# Altium footprint library DXPpcb.PCBLIB: 575 footprints (part 28 of 36)
Each footprint in its own frame and in the unit in brackets; x right, y up, seen from the top. Pads: shape width x height; smd on the part's side, far side on the other; paste and mask are expansions set on the pad; w line width, h text height; cw(c..) or ccw(c..) is an arc to the next point about the centre after c.
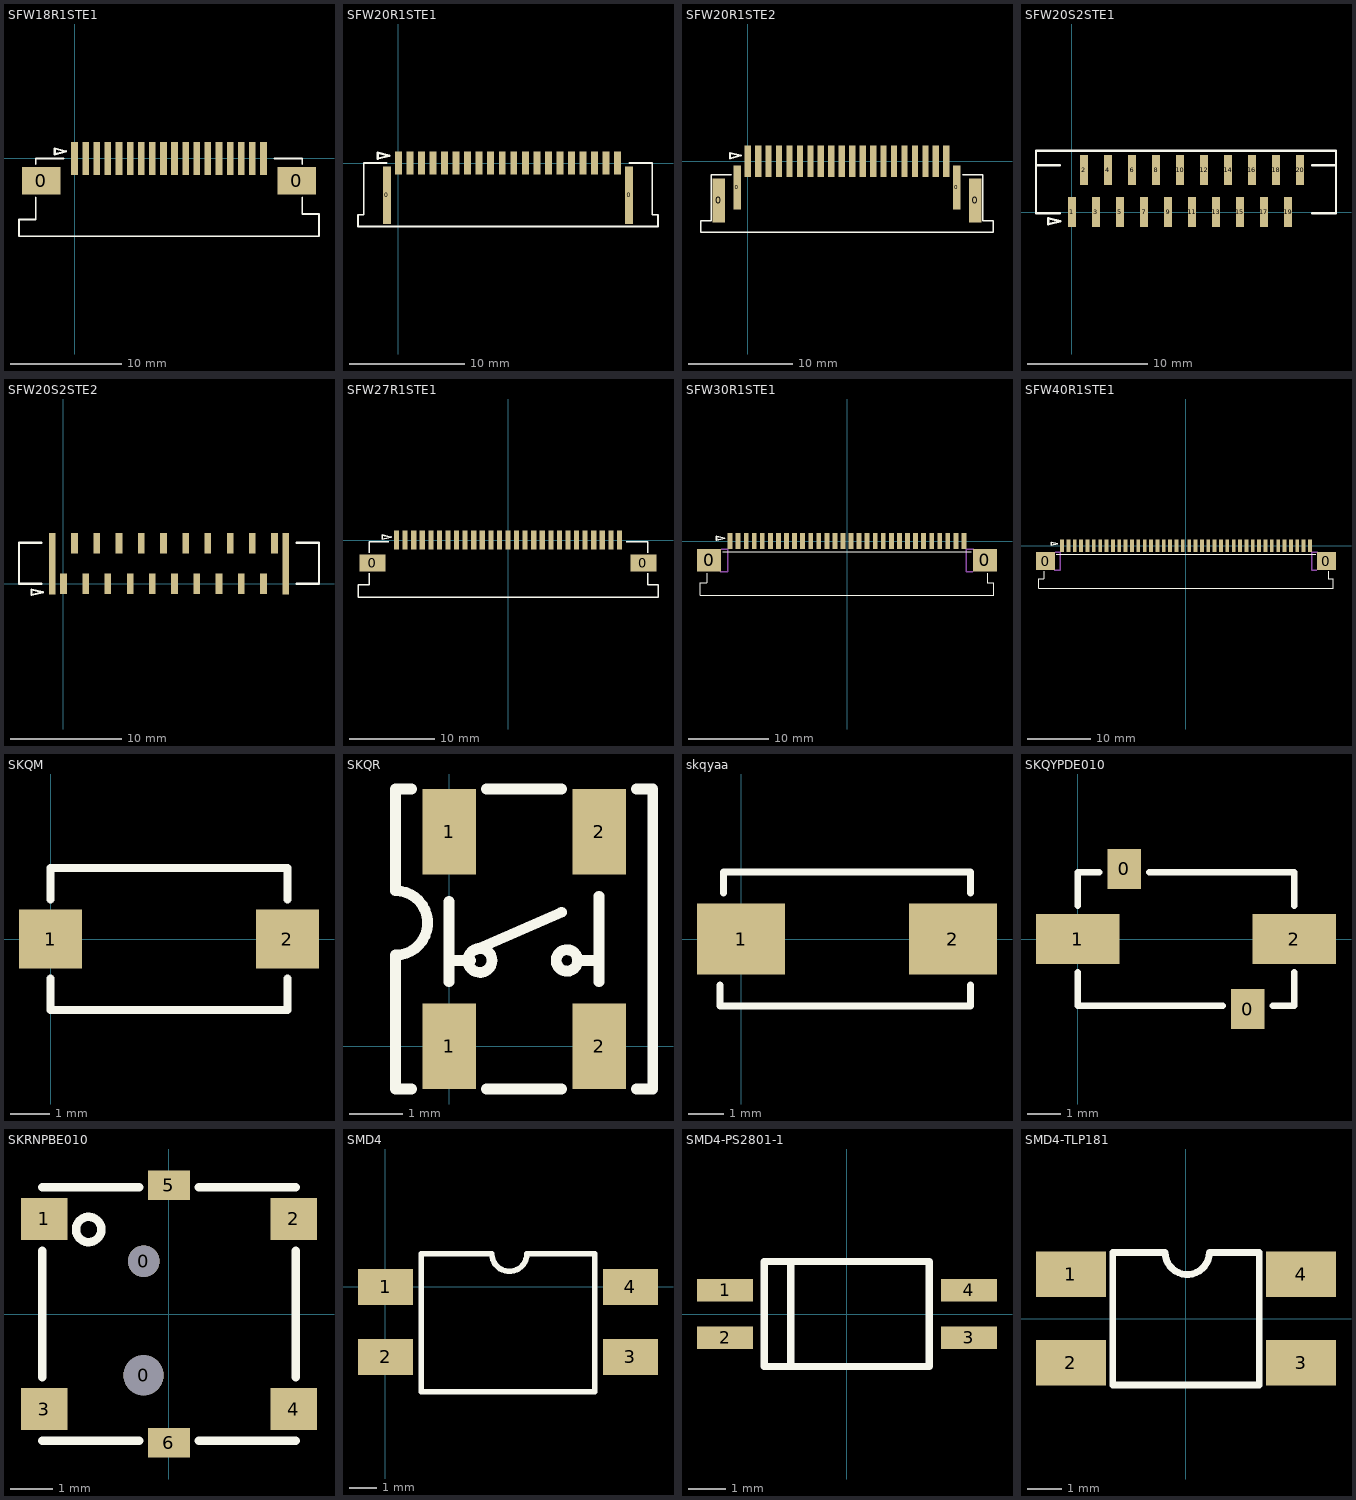
[diagram p27: the footprints below, top view; thin cyan lines are the x and y axes]

## SFW18R1STE1 [mm]
pads (20):
  rect 3.5x2.5 smd: 0(-3,-2) 0(20,-2)
  rect 0.6x3 smd: 1(0,0) 2(1,0) 3(2,0) 4(3,0) 5(4,0) 6(5,0) 7(6,0) 8(7,0) 9(8,0) 10(9,0) 11(10,0) 12(11,0) 13(12,0) 14(13,0) 15(14,0) 16(15,0) 17(16,0) 18(17,0)
TopOverlay:
  lines w0.152: -3.5,-3.5 -3.5,-5.5 -5,-5.5 -5,-7 22,-7 22,-5 20.5,-5 20.5,-3.5 ; -3.5,-0.5 -3.5,0 -1,0 ; 18,0 20.5,0 20.5,-0.5
  lines w0.2: -1.778,0.384 -1.778,0.892 -0.762,0.638 -1.778,0.384

## SFW20R1STE1 [mm]
pads (22):
  rect 0.7x5 smd: 0(-1,-2.8) 0(20,-2.8)
  rect 0.6x2 smd: 1(0,0) 2(1,0) 3(2,0) 4(3,0) 5(4,0) 6(5,0) 7(6,0) 8(7,0) 9(8,0) 10(9,0) 11(10,0) 12(11,0) 13(12,0) 14(13,0) 15(14,0) 16(15,0) 17(16,0) 18(17,0) 19(18,0) 20(19,0)
TopOverlay:
  lines w0.152: -3.5,-5.5 22.5,-5.5 ; -3.5,-5.492 -3.5,-4.492 -3,-4.492 -3,0.008 -1,0.008 ; 19.999,0.008 21.999,0.008 21.999,-4.492 22.499,-4.492 22.499,-5.492
  lines w0.2: -1.778,0.384 -1.778,0.892 -0.762,0.638 -1.778,0.384
BottomOverlay:

## SFW20R1STE2 [mm]
pads (24):
  rect 1.2x4.2 smd: 0(-2.75,-3.75) 0(21.75,-3.75)
  rect 0.7x4.2 smd: 0(-1,-2.5) 0(20,-2.5)
  rect 0.6x3 smd: 1(0,0) 2(1,0) 3(2,0) 4(3,0) 5(4,0) 6(5,0) 7(6,0) 8(7,0) 9(8,0) 10(9,0) 11(10,0) 12(11,0) 13(12,0) 14(13,0) 15(14,0) 16(15,0) 17(16,0) 18(17,0) 19(18,0) 20(19,0)
TopOverlay:
  lines w0.152: -1.6,-1.3 -3.5,-1.3 -3.5,-5.7 -4.5,-5.7 -4.5,-6.8 23.5,-6.8 23.5,-5.7 22.5,-5.7 22.5,-1.3 20.6,-1.3
  lines w0.2: -1.678,0.284 -1.678,0.792 -0.662,0.538 -1.678,0.284

## SFW20S2STE1 [mm]
pads (20):
  rect 0.7x2.5 smd: 1(0,0) 2(1,3.5) 3(2,0) 4(3,3.5) 5(4,0) 6(5,3.5) 7(6,0) 8(7,3.5) 9(8,0) 10(9,3.5) 11(10,0) 12(11,3.5) 13(12,0) 14(13,3.5) 15(14,0) 16(15,3.5) 17(16,0) 18(17,3.5) 19(18,0) 20(19,3.5)
TopOverlay:
  lines w0.2: -1,-0.1 -3,-0.1 -3,3.9 ; -1,3.9 -3,3.9 ; 20,-0.1 22,-0.1 22,3.9 ; 20,3.9 22,3.9 ; -3,3.9 -3,5.1 22,5.1 22,3.9 ; -1.978,-1.016 -0.962,-0.762 -1.978,-0.508 -1.978,-1.016

## SFW20S2STE2 [mm]
pads (22):
  rect 0.6x5.5 smd: 0(-1,1.8) 0(20,1.8)
  rect 0.6x1.85 smd: 1(0,0) 2(1,3.65) 3(2,0) 4(3,3.65) 5(4,0) 6(5,3.65) 7(6,0) 8(7,3.65) 9(8,0) 10(9,3.65) 11(10,0) 12(11,3.65) 13(12,0) 14(13,3.65) 15(14,0) 16(15,3.65) 17(16,0) 18(17,3.65) 19(18,0) 20(19,3.65)
TopOverlay:
  lines w0.2: -2,0 -4,0 -4,3.65 -4,3.7 -2,3.7 ; 21,0 23,0 23,3.7 21,3.7 ; -2.878,-1.016 -1.862,-0.762 -2.878,-0.508 -2.878,-1.016

## SFW27R1STE1 [mm]
pads (29):
  rect 3x2 smd: 0(-15.8,-2.7) 0(15.8,-2.7)
  rect 0.6x2.2 smd: 1(-13,0) 2(-12,0) 3(-11,0) 4(-10,0) 5(-9,0) 6(-8,0) 7(-7,0) 8(-6,0) 9(-5,0) 10(-4,0) 11(-3,0) 12(-2,0) 13(-1,0) 14(0,0) 15(1,0) 16(2,0) 17(3,0) 18(4,0) 19(5,0) 20(6,0) 21(7,0) 22(8,0) 23(9,0) 24(10,0) 25(11,0) 26(12,0) 27(13,0)
TopOverlay:
  lines w0.152: -16.2,-3.9 -16.2,-5.2 -17.5,-5.2 -17.5,-6.7 17.5,-6.7 17.5,-5.2 16.3,-5.2 16.3,-3.9 ; -16.2,-1.5 -16.2,-0.2 -13.9,-0.2 ; 13.8,-0.2 16.3,-0.2 16.3,-1.5
  lines w0.2: -14.678,0.084 -13.662,0.338 -14.678,0.592 -14.678,0.084

## SFW30R1STE1 [mm]
pads (32):
  rect 3x2.8 smd: 0(-17.1,-2.4) 0(17.1,-2.4)
  rect 0.6x2 smd: 1(-14.5,0) 2(-13.5,0) 3(-12.5,0) 4(-11.5,0) 5(-10.5,0) 6(-9.5,0) 7(-8.5,0) 8(-7.5,0) 9(-6.5,0) 10(-5.5,0) 11(-4.5,0) 12(-3.5,0) 13(-2.5,0) 14(-1.5,0) 15(-0.5,0) 16(0.5,0) 17(1.5,0) 18(2.5,0) 19(3.5,0) 20(4.5,0) 21(5.5,0) 22(6.5,0) 23(7.5,0) 24(8.5,0) 25(9.5,0) 26(10.5,0) 27(11.5,0) 28(12.5,0) 29(13.5,0) 30(14.5,0)
TopOverlay:
  lines w0.152: -17.4,-4 -17.4,-5.2 -18.2,-5.2 -18.2,-6.7 18.2,-6.7 18.2,-5.2 17.4,-5.2 17.4,-4 ; -15.4,-1.3 15.4,-1.3
  lines w0.2: -16.178,0.084 -16.178,0.592 -15.162,0.338 -16.178,0.084
Mechanical3:
  lines w0.2: -15.7,-3.8 -14.8,-3.8 -14.8,-1 -15.6,-1 ; 15.6,-3.8 14.8,-3.8 14.8,-1 15.7,-1

## SFW40R1STE1 [mm]
pads (42):
  rect 3x2.8 smd: 0(-22.1,-2.4) 0(22.1,-2.4)
  rect 0.6x2 smd: 1(-19.5,0) 2(-18.5,0) 3(-17.5,0) 4(-16.5,0) 5(-15.5,0) 6(-14.5,0) 7(-13.5,0) 8(-12.5,0) 9(-11.5,0) 10(-10.5,0) 11(-9.5,0) 12(-8.5,0) 13(-7.5,0) 14(-6.5,0) 15(-5.5,0) 16(-4.5,0) 17(-3.5,0) 18(-2.5,0) 19(-1.5,0) 20(-0.5,0) 21(0.5,0) 22(1.5,0) 23(2.5,0) 24(3.5,0) 25(4.5,0) 26(5.5,0) 27(6.5,0) 28(7.5,0) 29(8.5,0) 30(9.5,0) 31(10.5,0) 32(11.5,0) 33(12.5,0) 34(13.5,0) 35(14.5,0) 36(15.5,0) 37(16.5,0) 38(17.5,0) 39(18.5,0) 40(19.5,0)
TopOverlay:
  lines w0.152: -22.4,-4 -22.4,-5.2 -23.2,-5.2 -23.2,-6.7 23.2,-6.7 23.2,-5.2 22.4,-5.2 22.4,-4 ; -20.4,-1.3 20.4,-1.3
  lines w0.2: -21.178,0.084 -20.162,0.338 -21.178,0.592 -21.178,0.084
Mechanical3:
  lines w0.2: -20.7,-3.8 -19.8,-3.8 -19.8,-1 -20.6,-1 ; 20.6,-3.8 19.8,-3.8 19.8,-1 20.7,-1

## SKQM [mm]
pads (2):
  rect 1.6x1.5 smd: 1(0,0) 2(6,0)
TopOverlay:
  lines w0.2: 0,-1 0,-1.8 6,-1.8 6,-1 ; 0,1 0,1.8 6,1.8 6,1

## SKQR [mm]
pads (4):
  rect 1x1.6 smd: 1(0,4) 1(0,0) 2(2.8,4) 2(2.8,0)
TopOverlay:
  circle w0.2: c0.576,1.6 r0.224
  circle w0.2: c2.2,1.6 r0.2
  lines w0.2: -0.7,-0.8 -1,-0.8 -1,1.7 ccw(c-1,2.3) -1,2.9 -1,4.8 -0.7,4.8 ; 0,1.2 0,2.7 ; 0,1.6 0.4,1.6 ; 0.5,1.8 2.1,2.5 ; 0.7,-0.8 2.1,-0.8 ; 0.7,4.8 2.1,4.8 ; 2.4,1.6 2.8,1.6 ; 2.8,1.2 2.8,2.8 ; 3.5,-0.8 3.8,-0.8 3.8,4.8 3.5,4.8

## skqyaa [mm]
pads (2):
  rect 2.5x2 smd: 1(0,0) 2(6,0)
TopOverlay:
  lines w0.2: -0.6,-1.3 -0.6,-1.9 6.5,-1.9 6.5,-1.3 ; -0.5,1.3 -0.5,1.9 6.5,1.9 6.5,1.3

## SKQYPDE010 [mm]
pads (4):
  rect 1x1.2 smd: 0(1.4,2.1) 0(5.1,-2.1)
  rect 2.5x1.5 smd: 1(0,0) 2(6.5,0)
TopOverlay:
  lines w0.2: 0,-1 0,-2 4.35,-2 ; 0,1 0,2 0.65,2 ; 2.15,2 6.5,2 6.5,1 ; 5.85,-2 6.5,-2 6.5,-1

## SKRNPBE010 [mm]
pads (8):
  round 0.95 hole 0.95 unplated: 0(-0.6,-1.45)
  round 0.75 hole 0.75 unplated: 0(-0.6,1.25)
  rect 1.1x1 smd: 1(-2.95,2.25) 2(2.95,2.25) 3(-2.95,-2.25) 4(2.95,-2.25)
  rect 1x0.7 smd: 5(0,3.05) 6(0,-3.05)
TopOverlay:
  circle w0.2: c-1.9,2 r0.3
  lines w0.2: -3,-3 -0.7,-3 ; -3,-1.5 -3,1.5 ; -3,3 -0.7,3 ; 0.7,-3 3,-3 ; 0.7,3 3,3 ; 3,-1.5 3,1.5

## SMD4 [mm]
pads (4):
  rect 2x1.3 smd: 1(0.004,-0.011) 2(0.004,-2.551) 3(8.904,-2.551) 4(8.904,-0.011)
TopOverlay:
  lines w0.2: 1.304,-3.811 7.604,-3.811 7.604,1.189 5.139,1.189 cw(c4.504,1.189) 3.869,1.189 1.304,1.189 1.304,-3.811

## SMD4-PS2801-1 [mm]
pads (4):
  rect 1.5x0.6 smd: 1(-3.25,0.635) 2(-3.25,-0.635) 3(3.25,-0.635) 4(3.25,0.635)
TopOverlay:
  lines w0.2: -1.5,-1.4 -1.5,1.4 ; -2.2,-1.4 -2.2,1.4 2.2,1.4 2.2,-1.4 -2.2,-1.4

## SMD4-TLP181 [mm]
pads (4):
  rect 2x1.3 smd: 1(-3.3,1.27) 2(-3.3,-1.27) 3(3.3,-1.27) 4(3.3,1.27)
TopOverlay:
  lines w0.2: 0.67,1.9 cw(c0.035,1.9) -0.6,1.9 -2.1,1.9 -2.1,-1.9 2.1,-1.9 2.1,1.9 0.7,1.9